# EAGLE library part AD8657 (library Opamps)
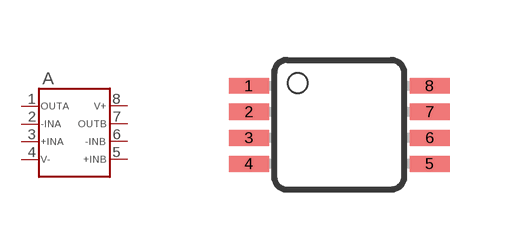
[diagram p1: symbol with the pads of MSOP8; footprint MSOP8]

Designator prefix A

## AD8657  [MSOP8]
1  OUTA  out
2  -INA  in
3  +INA  in
4  V-  in
5  +INB  in
6  -INB  in
7  OUTB  out
8  V+  in

## Footprint MSOP8 (pad centres in mm)
smd 1 x 0.4: 1 -2.263,0.976; 2 -2.263,0.326; 3 -2.263,-0.324; 4 -2.263,-0.974; 5 2.262,-0.974; 6 2.262,-0.324; 7 2.262,0.326; 8 2.262,0.976